# EAGLE library part EXPANSION_PORT_8032_1 (library commodore)
1st expansion port for the Commodore 8032, 8032-SK, 8096 and 8296
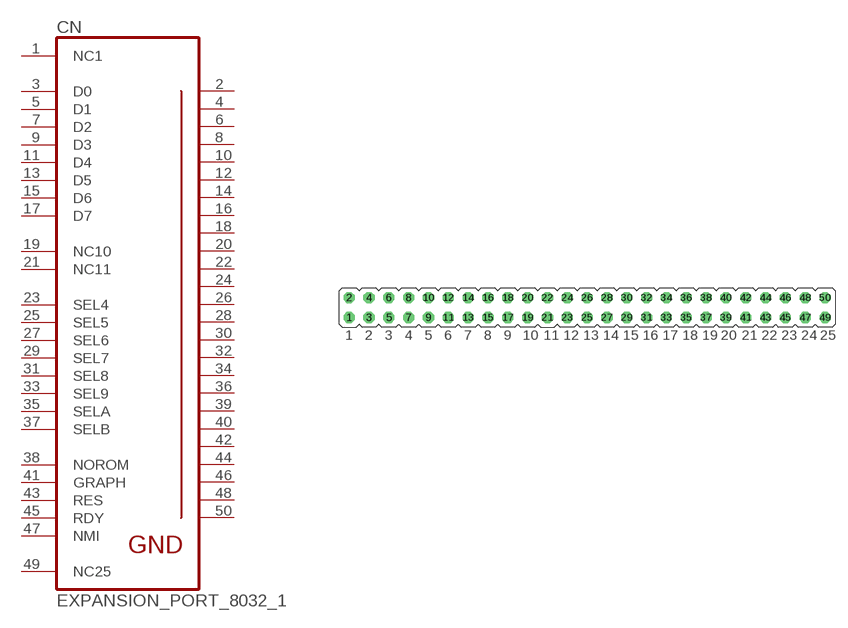
[diagram p32: symbol with the pads of JP25Q; footprint JP25Q]

Designator prefix CN

## EXPANSION_PORT_8032_1  [JP25Q]
1  NC1  pas
2  P$9  pas
3  D0
4  P$10  pas
5  D1
6  P$11  pas
7  D2
8  P$12  pas
9  D3
10  P$13  pas
11  D4
12  P$14  pas
13  D5
14  P$15  pas
15  D6
16  P$16  pas
17  D7
18  P$17  pas
19  NC10  pas
20  P$18  pas
21  NC11  pas
22  P$19  pas
23  SEL4  in
24  P$20  pas
25  SEL5  in
26  P$21  pas
27  SEL6  in
28  P$22  pas
29  SEL7  in
30  P$23  pas
31  SEL8  in
32  P$24  pas
33  SEL9  in
34  P$25  pas
35  SELA  in
36  P$26  pas
37  SELB  in
38  NOROM  pas
39  P$27  pas
40  P$28  pas
41  GRAPH  pas
42  P$29  pas
43  RES  pas
44  P$30  pas
45  RDY  pas
46  P$31  pas
47  NMI  pas
48  P$32  pas
49  NC25  pas
50  P$33  pas

## Footprint JP25Q (pad centres in mm)
JUMPER
drill 0.914 octagon: 1 -11.43,-1.27; 2 -11.43,1.27; 3 -8.89,-1.27; 4 -8.89,1.27; 5 -6.35,-1.27; 6 -6.35,1.27; 7 -3.81,-1.27; 8 -3.81,1.27; 9 -1.27,-1.27; 10 -1.27,1.27; 11 1.27,-1.27; 12 1.27,1.27; 13 3.81,-1.27; 14 3.81,1.27; 15 6.35,-1.27; 16 6.35,1.27; 17 8.89,-1.27; 18 8.89,1.27; 19 11.43,-1.27; 20 11.43,1.27; 21 13.97,-1.27; 22 13.97,1.27; 23 16.51,-1.27; 24 16.51,1.27; 25 19.05,-1.27; 26 19.05,1.27; 27 21.59,-1.27; 28 21.59,1.27; 29 24.13,-1.27; 30 24.13,1.27; 31 26.67,-1.27; 32 26.67,1.27; 33 29.21,-1.27; 34 29.21,1.27; 35 31.75,-1.27; 36 31.75,1.27; 37 34.29,-1.27; 38 34.29,1.27; 39 36.83,-1.27; 40 36.83,1.27; 41 39.37,-1.27; 42 39.37,1.27; 43 41.91,-1.27; 44 41.91,1.27; 45 44.45,-1.27; 46 44.45,1.27; 47 46.99,-1.27; 48 46.99,1.27; 49 49.53,-1.27; 50 49.53,1.27